# EAGLE library part IC74HC194 (library chuong)
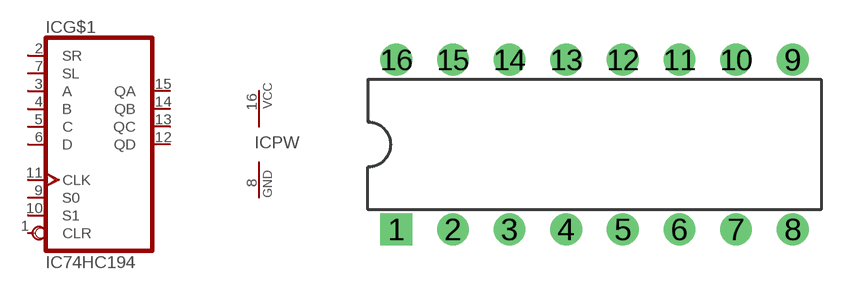
[diagram p57: symbol with the pads of DIL-16; footprint DIL-16]

Designator prefix IC; gates G$1=IC74HC194 PW=POWER

## IC74HC194  [DIL-16]
1  G$1:CLR  in
2  G$1:SR  in
3  G$1:A  in
4  G$1:B  in
5  G$1:C  in
6  G$1:D  in
7  G$1:SL  in
8  PW:GND  pwr
9  G$1:S0  in
10  G$1:S1  in
11  G$1:CLK  in
12  G$1:QD  out
13  G$1:QC  out
14  G$1:QB  out
15  G$1:QA  out
16  PW:VCC  pwr

## Footprint DIL-16 (pad centres in mm)
drill 0.61 pad 1.422 square: 1 -8.89,-3.81
drill 0.61 pad 1.422 round: 2 -6.35,-3.81; 3 -3.81,-3.81; 4 -1.27,-3.81; 5 1.27,-3.81; 6 3.81,-3.81; 7 6.35,-3.81; 8 8.89,-3.81; 9 8.89,3.81; 10 6.35,3.81; 11 3.81,3.81; 12 1.27,3.81; 13 -1.27,3.81; 14 -3.81,3.81; 15 -6.35,3.81; 16 -8.89,3.81